# Altium footprint library SIMetrix Devices.PcbLib: 159 footprints (part 3 of 10)
Each footprint in its own frame and in the unit in brackets; x right, y up, seen from the top. Pads: shape width x height; smd on the part's side, far side on the other; paste and mask are expansions set on the pad; w line width, h text height; cw(c..) or ccw(c..) is an arc to the next point about the centre after c.
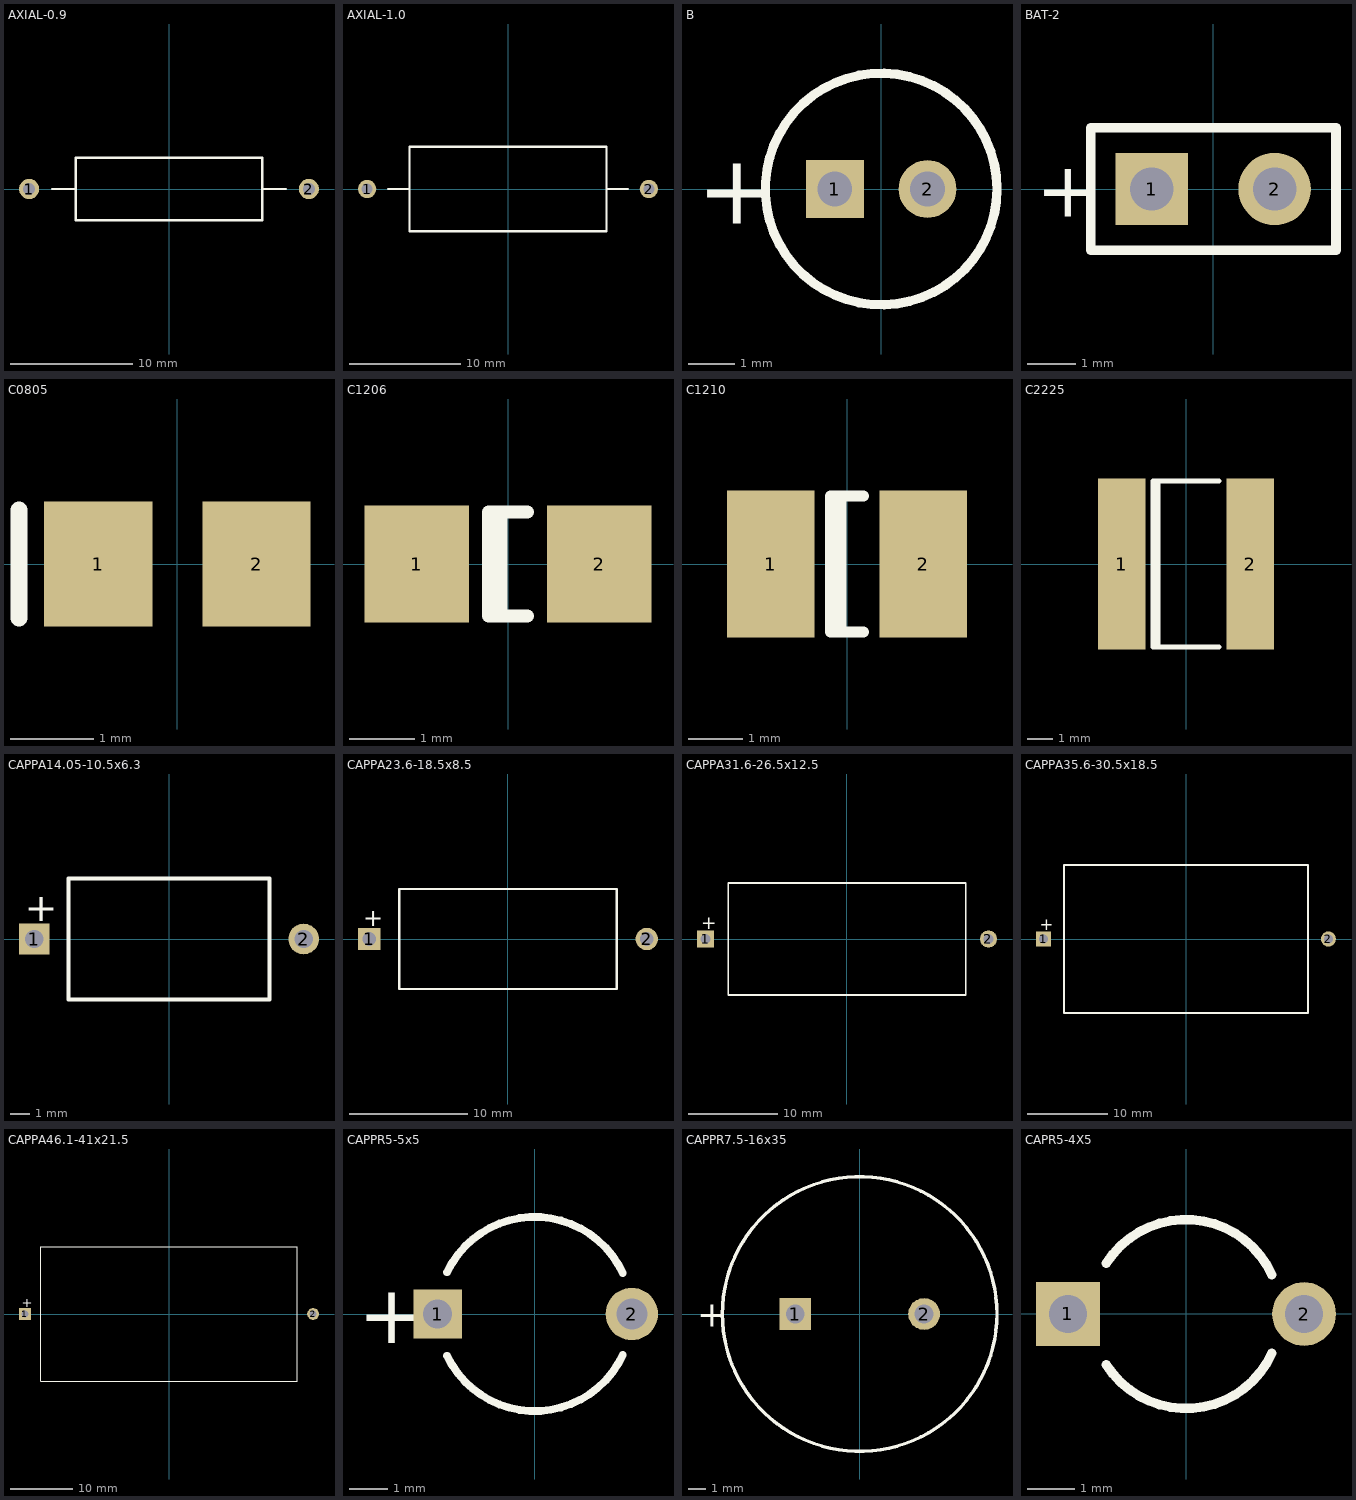
[diagram p2: the footprints below, top view; thin cyan lines are the x and y axes]

## AXIAL-0.9 [mm] "Magnetic-Core Inductor; 2 Leads"
height 5.08
pads (2):
  round 1.65 hole 1: 1(-11.43,0) 2(11.43,0)
Top Overlay:
  lines w0.2: -9.525,0 -7.62,0 ; 7.62,0 9.525,0 ; -7.62,-2.54 7.62,-2.54 7.62,2.54 -7.62,2.54 -7.62,-2.54

## AXIAL-1.0 [mm] "Adjustable Magnetic-Core Inductor; 2 Leads"
height 7.62
pads (2):
  round 1.65 hole 1: 1(-12.7,0) 2(12.7,0)
Top Overlay:
  lines w0.2: -10.795,0 -8.89,0 ; 8.89,0 10.795,0 ; -8.89,-3.81 -8.89,3.81 8.89,3.81 8.89,-3.81 -8.89,-3.81

## B [mm] "Capacitor, Electrolytic, Radial; Body 5 x 6.8 mm (Dia.xH typ); Pin Spacing 2 mm (typ)"
pads (2):
  rect 1.25x1.25 hole 0.75: 1(-1,0)
  round 1.25 hole 0.75: 2(1,0)
Top Overlay:
  circle w0.2: c0,0 r2.5
  text "+" at -3.975,-0.75 h1.5

## BAT-2 [mm] "Multicell Battery; 2 Leads"
pads (2):
  rect 1.5x1.5 hole 0.9: 1(-1.27,0)
  round 1.5 hole 0.9: 2(1.27,0)
Top Overlay:
  lines w0.2: -2.54,-1.27 2.54,-1.27 2.54,1.27 -2.54,1.27 -2.54,-1.27
  text "+" at -3.67,-0.577 h1.15

## C0805 [mm] "Chip Capacitor; Body 2.0 x 1.2 mm (LxW typ)"
height 1.1
pads (2):
  rect 1.3x1.5 smd: 1(-0.95,0) 2(0.95,0)
Top Overlay:
  lines w0.2: -1.9,-0.65 -1.9,0.65

## C1206 [mm] "Chip Capacitor; Body 3.2 x 1.6 mm (LxW typ)"
height 1.35
pads (2):
  rect 1.6x1.8 smd: 1(-1.4,0) 2(1.4,0)
Top Overlay:
  lines w0.2: -0.11,-0.8 -0.11,0.8 ; 0.3,-0.8 -0.3,-0.8 -0.3,0.8 0.3,0.8

## C1210 [mm] "Chip Capacitor; Body 3.2 x 2.5 mm (LxW typ)"
height 1.35
pads (2):
  rect 1.6x2.7 smd: 1(-1.4,0) 2(1.4,0)
Top Overlay:
  lines w0.2: -0.11,-1.25 -0.11,1.25 ; 0.3,-1.25 -0.3,-1.25 -0.3,1.25 0.3,1.25

## C2225 [mm] "Chip Capacitor; Body 5.6 x 6.4 mm (LxW typ)"
height 1.1
pads (2):
  rect 1.9x6.8 smd: 1(-2.55,0) 2(2.55,0)
Top Overlay:
  lines w0.2: -1.11,-3.3 -1.11,3.3 ; 1.3,-3.3 -1.3,-3.3 -1.3,3.3 1.3,3.3

## CAPPA14.05-10.5x6.3 [mm] "Capacitor, Axial, Polarised; Body 10.5 x 6.3 mm (LxDia. max), Lead Dia. 0.6 mm (typ)"
height 5.08
pads (2):
  rect 1.6x1.6 hole 0.95: 1(-7.025,0)
  round 1.6 hole 0.95: 2(7.025,0)
Top Overlay:
  lines w0.2: -5.25,-3.15 -5.25,3.15 5.25,3.15 5.25,-3.15 -5.25,-3.15
  text "+" at -7.525,0.925 h1.5

## CAPPA23.6-18.5x8.5 [mm] "Capacitor, Axial, Polarised; Body 18.5 x 8.5 mm (LxDia. max), Lead Dia. 0.8 mm (typ)"
height 5.08
pads (2):
  rect 1.9x1.9 hole 1.15: 1(-11.8,0)
  round 1.9 hole 1.15: 2(11.8,0)
Top Overlay:
  lines w0.2: -9.25,-4.25 -9.25,4.25 9.25,4.25 9.25,-4.25 -9.25,-4.25
  text "+" at -12.3,1.075 h1.5

## CAPPA31.6-26.5x12.5 [mm] "Capacitor, Axial, Polarised; Body 26.5 x 12.5 mm (LxDia. max), Lead Dia. 0.8 mm (typ)"
height 5.08
pads (2):
  rect 1.9x1.9 hole 1.15: 1(-15.8,0)
  round 1.9 hole 1.15: 2(15.8,0)
Top Overlay:
  lines w0.2: -13.25,-6.25 -13.25,6.25 13.25,6.25 13.25,-6.25 -13.25,-6.25
  text "+" at -16.3,1.075 h1.5

## CAPPA35.6-30.5x18.5 [mm] "Capacitor, Axial, Polarised; Body 30.5 x 18.5 mm (LxDia. max), Lead Dia. 0.8 mm (typ)"
height 5.08
pads (2):
  rect 1.9x1.9 hole 1.15: 1(-17.8,0)
  round 1.9 hole 1.15: 2(17.8,0)
Top Overlay:
  lines w0.2: -15.25,-9.25 -15.25,9.25 15.25,9.25 15.25,-9.25 -15.25,-9.25
  text "+" at -18.3,1.075 h1.5

## CAPPA46.1-41x21.5 [mm] "Capacitor, Axial, Polarised; Body 41 x 21.5 mm (LxDia. max), Lead Dia. 0.8 mm (typ)"
height 5.08
pads (2):
  rect 1.9x1.9 hole 1.15: 1(-23.05,0)
  round 1.9 hole 1.15: 2(23.05,0)
Top Overlay:
  lines w0.2: -20.5,-10.75 -20.5,10.75 20.5,10.75 20.5,-10.75 -20.5,-10.75
  text "+" at -23.55,1.075 h1.5

## CAPPR5-5x5 [mm] "Capacitor, Electrolytic, Radial; Body 5 x 5 mm (Dia.xH typ); Pin Spacing 5 mm (typ)"
pads (2):
  rect 1.25x1.25 hole 0.75: 1(-2.5,0)
  round 1.35 hole 0.8: 2(2.5,0)
Top Overlay:
  lines w0.2: -2.257,-1.075 ccw(c0,0) 2.269,-1.05 ; -2.257,1.075 cw(c0,0) 2.269,1.05
  text "+" at -4.55,-0.75 h1.5

## CAPPR7.5-16x35 [mm] "Capacitor, Electrolytic, Radial; Body 16 x 35 mm (Dia.xH typ); Pin Spacing 7.5 mm (typ)"
pads (2):
  rect 1.85x1.85 hole 1.1: 1(-3.75,0)
  round 1.85 hole 1.1: 2(3.75,0)
Top Overlay:
  circle w0.2: c0,0 r8
  text "+" at -9.475,-0.75 h1.5

## CAPR5-4X5 [mm] "Capacitor; 2 Leads"
height 12
pads (2):
  rect 1.35x1.35 hole 0.8: 1(-2.5,0)
  round 1.35 hole 0.8: 2(2.5,0)
Top Overlay:
  lines w0.2: -1.687,-1.075 ccw(c0,0) 1.819,-0.832 ; -1.687,1.075 cw(c0,0) 1.819,0.832